# EAGLE library part 686114148922 (library Eagle_FPC_CONNECTOR_AND_FFC_CAB (rev18c))
WR-FPC 1mm SMT Horiz. Bot. Contact Hinge type WR-FPC 1mm 14 pins Hinge type SMT Horizontal Bottom Contact ;=>Code : Con_FPC_ZIF_1.00_6861xx148922_686114148922 <http://katalog.we-online.de/media/images/eican/Con_FPC_ZIF_1.00_686110148922_pf2.jpg> Details see: http://katalog.we-online.de/em/datasheet/6861xx148922.pdf Created 2014-10-08, Karrer Zheng 2014 (C) Wurth Elektronik
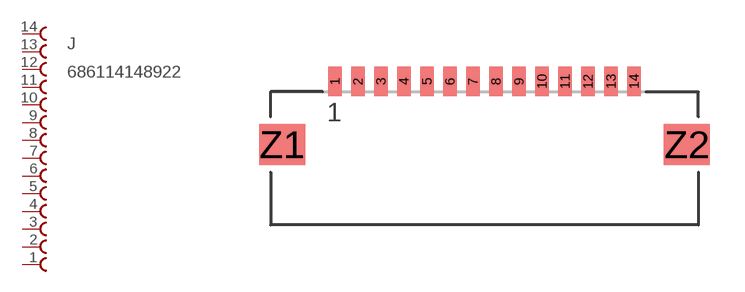
[diagram p94: symbol with the pads of 686114148922; footprint 686114148922]

Designator prefix J

## 686114148922  [686114148922]
1  14  pas
2  13  pas
3  12  pas
4  11  pas
5  10  pas
6  9  pas
7  8  pas
8  7  pas
9  6  pas
10  5  pas
11  4  pas
12  3  pas
13  2  pas
14  1  pas

## Footprint 686114148922 (pad centres in mm)
WR-FPC 1mm SMT Horiz. Bot. Contact Hinge type WR-FPC 1mm 14pins Hinge type SMT Horizontal Bottom Contact
smd 0.6 x 1.3: 1 -6.5,2.75; 2 -5.5,2.75; 3 -4.5,2.75; 4 -3.5,2.75; 5 -2.5,2.75; 6 -1.5,2.75; 7 -0.5,2.75; 8 0.5,2.75; 9 1.5,2.75; 10 2.5,2.75; 11 3.5,2.75; 12 4.5,2.75; 13 5.5,2.75; 14 6.5,2.75
smd 2 x 1.8: Z1 -8.8,0; Z2 8.8,0